# EAGLE library part USB_C_JAE_DX07S024JJ2 (library connector)
Surface mount USB-C
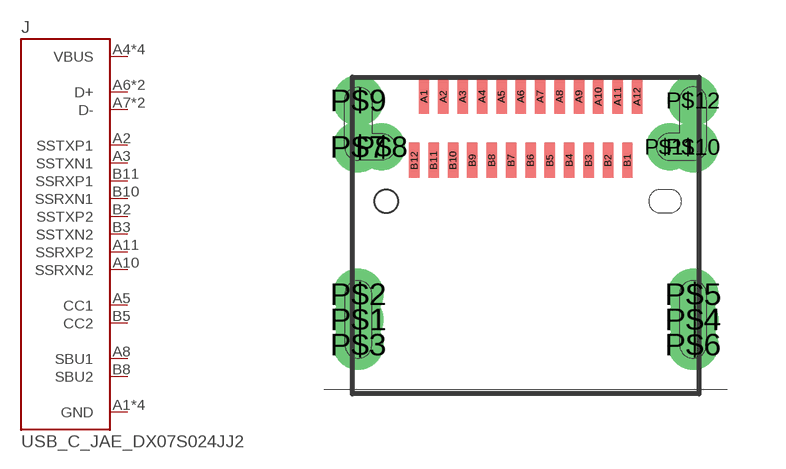
[diagram p6: symbol with the pads of DX07S024JJ2; footprint DX07S024JJ2]

Designator prefix J

## USB_C_JAE_DX07S024JJ2 (MOUSER: 656-DX07S024JJ2R1300)  [DX07S024JJ2]
A1  GND
A2  SSTXP1
A3  SSTXN1
A4  VBUS
A5  CC1
A6  D+
A7  D-
A8  SBU1
A9  VBUS
A10  SSRXN2
A11  SSRXP2
A12  GND
B1  GND
B2  SSTXP2
B3  SSTXN2
B4  VBUS
B5  CC2
B6  D+
B7  D-
B8  SBU2
B9  VBUS
B10  SSRXN1
B11  SSRXP1
B12  GND

## Footprint DX07S024JJ2 (pad centres in mm)
smd 0.27 x 0.9: A1 -2.625,7.55; A2 -2.125,7.55; A3 -1.625,7.55; A4 -1.125,7.55; A5 -0.625,7.55; A6 -0.125,7.55; A7 0.375,7.55; A8 0.875,7.55; A9 1.375,7.55; A10 1.875,7.55; A11 2.375,7.55; A12 2.875,7.55; B1 2.625,5.9; B2 2.125,5.9; B3 1.625,5.9; B4 1.125,5.9; B5 0.625,5.9; B6 0.125,5.9; B7 -0.375,5.9; B8 -0.875,5.9; B9 -1.375,5.9; B10 -1.875,5.9; B11 -2.375,5.9; B12 -2.875,5.9
drill 0.7 pad 1.3: P$1 -4.32,1.8; P$2 -4.32,2.45; P$3 -4.32,1.15; P$4 4.32,1.8; P$5 4.32,2.45; P$6 4.32,1.15; P$7 -4.32,6.25; P$9 -4.32,7.45; P$10 4.32,6.25; P$12 4.32,7.45
drill 0.7 pad 1: P$8 -3.72,6.25; P$11 3.72,6.25
hole 0.6 at -3.6,4.85